# Altium schematic symbol library BluetoothSerial.SchLib: 1 symbol
Pins are listed as number, name and electrical type; pins without a type are passive.

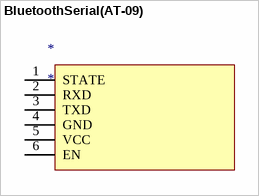
[diagram p0: symbol BluetoothSerial(AT-09)]

## BluetoothSerial(AT-09)
designator *
pins: 1 STATE, 2 RXD, 3 TXD, 4 GND, 5 VCC, 6 EN